# Altium footprint library chip_resistor.PcbLib: 9 footprints
Each footprint in its own frame and in the unit in brackets; x right, y up, seen from the top. Pads: shape width x height; smd on the part's side, far side on the other; paste and mask are expansions set on the pad; w line width, h text height; cw(c..) or ccw(c..) is an arc to the next point about the centre after c.
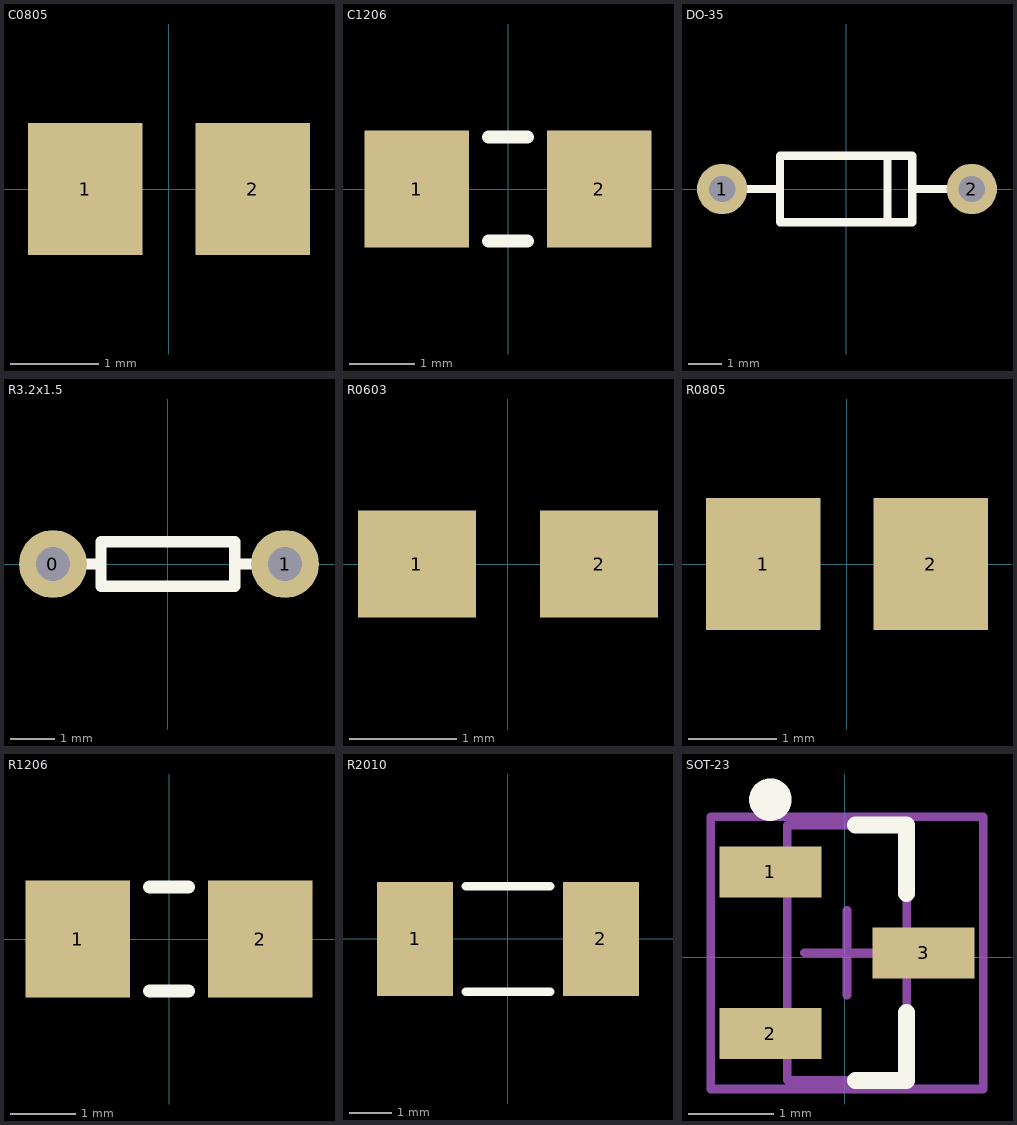
[diagram p0: the footprints below, top view; thin cyan lines are the x and y axes]

## C0805 [mm]
pads (2):
  rect 1.3x1.5 smd: 1(-0.95,0) 2(0.95,0)
3D body: height 0.5, standoff 0, extent -1,-0.6 1,0.6

## C1206 [mm]
pads (2):
  rect 1.6x1.8 smd: 1(-1.4,0) 2(1.4,0)
Top Overlay:
  lines w0.2: -0.3,-0.8 0.3,-0.8 ; -0.3,0.8 0.3,0.8
3D body: height 0.6, standoff 0, extent -1.6,-0.8 1.6,0.8

## DO-35 [mm]
pads (2):
  round 1.524 hole 0.8: 1(-3.75,0) 2(3.8,0)
Top Overlay:
  lines w0.254: -3.75,0 -2,0 ; 1.25,-1 1.25,1 ; 2,0 3.8,0 ; -2,-1 -2,1 2,1 2,-1 -2,-1
3D body: height 2.46, standoff -2, extent -4.01,-0.96 4.13,0.96

## R3.2x1.5 [mil]
pads (2):
  round 60 hole 30: 0(-101.38,0) 1(103.35,0)
Top Overlay:
  lines w10: -101.38,0 -59.06,0 ; 59.06,0 103.35,0 ; -59.06,-19.68 -59.06,19.68 0,19.68 59.06,19.68 59.06,-19.68 -59.06,-19.68
3D body: height 59.06, standoff -86.61, extent -107.87,-29.52 107.88,29.53

## R0603 [mm]
height 0.55
pads (2):
  rect 1.1x1 smd: 1(-0.85,0) 2(0.85,0)
3D body: height 0.5, standoff 0, extent -0.8,-0.4 0.8,0.4

## R0805 [mm]
height 0.7
pads (2):
  rect 1.3x1.5 smd: 1(-0.95,0) 2(0.95,0)
3D body: height 0.5, standoff 0, extent -1,-0.6 1,0.6

## R1206 [mm]
height 0.5
pads (2):
  rect 1.6x1.8 smd: 1(-1.4,0) 2(1.4,0)
Top Overlay:
  lines w0.2: -0.3,-0.8 0.3,-0.8 ; -0.3,0.8 0.3,0.8
3D body: height 0.6, standoff 0, extent -1.6,-0.8 1.6,0.8

## R2010 [mm]
height 0.7
pads (2):
  rect 1.8x2.7 smd: 1(-2.2,0) 2(2.2,0)
Top Overlay:
  lines w0.2: -1,-1.25 1,-1.25 ; -1,1.25 1,1.25

## SOT-23 [mm]
pads (3):
  rect 1.2x0.6 smd: 1(-0.876,0.999) 2(-0.876,-0.901) 3(0.924,0.049)
Top Overlay:
  circle w0.25: c-0.876,1.849 r0.125
  lines w0.2: 0.124,-1.451 0.724,-1.451 0.724,-0.651 ; 0.124,1.549 0.724,1.549 0.724,0.749
Mechanical 13:
  lines w0.1: -0.676,-1.451 -0.676,1.549 0.724,1.549 0.724,-1.451 -0.676,-1.451
Mechanical 15:
  lines w0.1: -0.476,0.049 0.524,0.049 ; 0.024,-0.451 0.024,0.549 ; -1.576,-1.551 -1.576,1.649 1.624,1.649 1.624,-1.551 -1.576,-1.551
3D body: height 1.1, standoff 0, extent -0.676,-1.451 0.724,1.549